# Altium schematic symbol library IC_Transistor.SchLib: 16 symbols
Pins are listed as number, name and electrical type; pins without a type are passive.

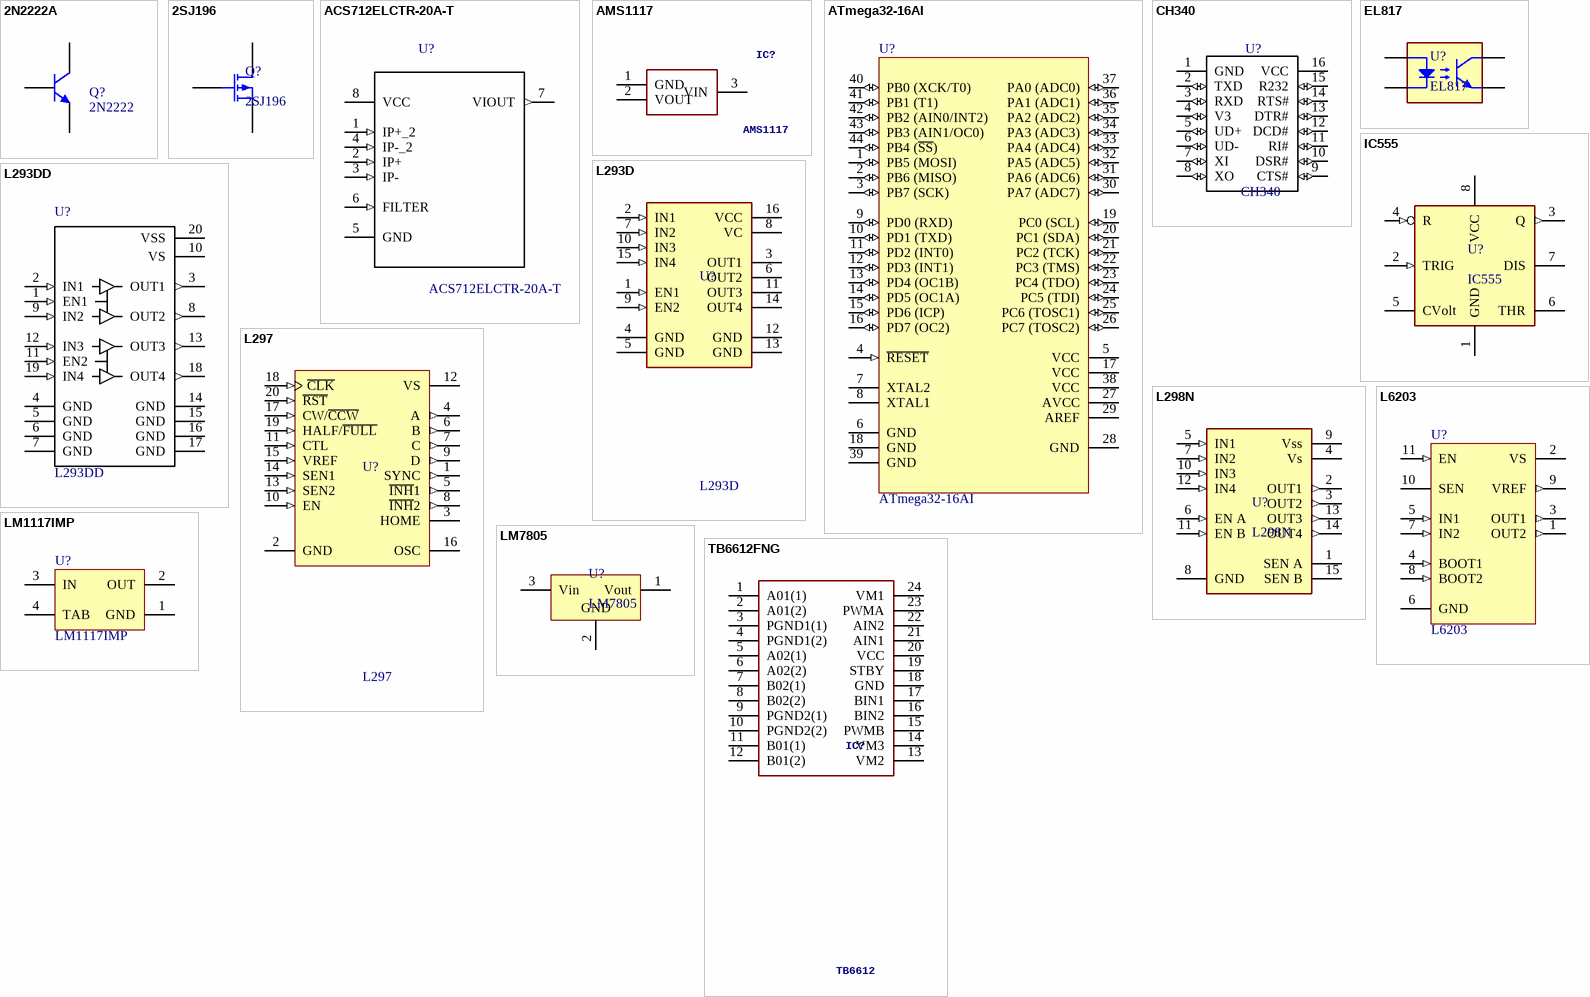
[diagram p0: symbols 2N2222A to TB6612FNG]

## 2N2222A
designator Q?, comment 2N2222
Amplifier Transistor NPN Silicon
footprint TO 92 (TO, Flat Index; 3 In-Line, Axial Leads; Body Dia. 4.6mm; Leads 0.48 x 0.43 mm (max))
footprint SOT23
pins: 1 C, 2 B, 3 E

## 2SJ196
designator Q?
P-Channel MOSFET
footprint TO 92 (TO, Flat Index; 3 In-Line, Axial Leads; Body Dia. 4.6mm; Leads 0.48 x 0.43 mm (max))
pins: 1 G, 2 D, 3 S

## ACS712ELCTR-20A-T
designator U?
SENSOR CURRENT HALL 20A AC/DC; MF: Allegro; Package: SOIC-8 Allegro MicroSystems LLC; Price: 2.93 USD; MP: ACS712ELCTR-20A-T; Availability: Good; Value: *
footprint SOIC127P600X175-8N
pins: 1 IP+_2 (in), 2 IP+ (in), 3 IP- (in), 4 IP-_2 (in), 5 GND, 6 FILTER (in), 7 VIOUT (out), 8 VCC (power)

## AMS1117
designator IC?
Manufacturer_Name: Advanced Monolithic Systems; GateName_1: G$1; SymbolName_1: AMS1117-3.3V; LibraryName: ams1117-3.3v; DeviceSetName: AMS1117-3.3V; Package: SOT229P700X180-4N; Supplier_Name: RS; Manufacturer_Part_Number: ams1117-3.3v; Height: 1.8mm
footprint AMS1117
pins: 1 GND, 2 VOUT, 3 VIN

## ATmega32-16AI
designator U?
AVR 32K Bytes of In-System Programmable Flash Memory; Published: 17-Sep-2003; LatestRevisionDate: 13-Apr-2006; LatestRevisionNote: IPC-7351 Footprint Added.; DatasheetVersion: 2503C-AVR-10/02; PackageVersion: rev.B, Oct-2001; PackageReference: 44A; Publisher: Altium Limited; PackageDescription: 44-Pin Thin Quad Flat Pack 0.8 mm Pitch; ComponentLink1Description: Manufacturer Link; ComponentLink1URL: http://www.atmel.com; ComponentLink2Description: Datasheet; ComponentLink2URL: http://www.atmel.com/dyn/resources/prod_documents/doc2503.pdf
footprint Atmega32
footprint DIP_40 (DIP, 40-Leads, Row Spacing 15.24mm, Pitch 2.54mm, Body 51.8x13.5mm)
pins: 1 PB5 (MOSI) (io), 2 PB6 (MISO) (io), 3 PB7 (SCK) (io), 4 ~{RESET} (in), 5 VCC (power), 6 GND (power), 7 XTAL2, 8 XTAL1, 9 PD0 (RXD) (io), 10 PD1 (TXD) (io), 11 PD2 (INT0) (io), 12 PD3 (INT1) (io), 13 PD4 (OC1B) (io), 14 PD5 (OC1A) (io), 15 PD6 (ICP) (io), 16 PD7 (OC2) (io), 17 VCC (power), 18 GND (power), 19 PC0 (SCL) (io), 20 PC1 (SDA) (io), 21 PC2 (TCK) (io), 22 PC3 (TMS) (io), 23 PC4 (TDO) (io), 24 PC5 (TDI) (io), 25 PC6 (TOSC1) (io), 26 PC7 (TOSC2) (io), 27 AVCC (power), 28 GND (power), 29 AREF, 30 PA7 (ADC7) (io), 31 PA6 (ADC6) (io), 32 PA5 (ADC5) (io), 33 PA4 (ADC4) (io), 34 PA3 (ADC3) (io), 35 PA2 (ADC2) (io), 36 PA1 (ADC1) (io), 37 PA0 (ADC0) (io), 38 VCC (power), 39 GND (power), 40 PB0 (XCK/T0) (io), 41 PB1 (T1) (io), 42 PB2 (AIN0/INT2) (io), 43 PB3 (AIN1/OC0) (io), 44 PB4 (~{SS}) (io)

## CH340
designator U?
MF: Eaton / Cutler Hammer; Package: None; MP: CH340; Price: 223.47 USD; Availability: Bad; Value: *
footprint SO16
pins: 1 GND (power), 2 TXD (io), 3 RXD (io), 4 V3 (io), 5 UD+ (io), 6 UD- (io), 7 XI (io), 8 XO (io), 9 CTS# (io), 10 DSR# (io), 11 RI# (io), 12 DCD# (io), 13 DTR# (io), 14 RTS# (io), 15 R232 (io), 16 VCC (power)

## EL817
designator U?
Photocoupler
footprint DIP_4
pins: 1 A, 2 K, 3 E, 4 C

## IC555
designator U?
footprint DIP_8
pins: 1 GND, 2 TRIG (in), 3 Q (out), 4 R (in), 5 CVolt, 6 THR, 7 DIS, 8 VCC

## L293D
designator U?
Push-Pull Four Channel Driver With Diode; Published: 8-Jun-2000; LatestRevisionDate: 06-Jun-2005; LatestRevisionNote: Stylized 3D Model Added.; DatasheetVersion: Jun-1996; PackageVersion: Apr-1996; PackageReference: DIP16; Publisher: Altium Limited; PackageDescription: DIP; 16 Leads; Row Spacing 7.62 mm; Pitch 2.54 mm; ComponentLink1Description: Manufacturer Link; ComponentLink1URL: http://www.st.com/; ComponentLink2Description: Datasheet; ComponentLink2URL: http://www.st.com/stonline/products/literature/ds/1330/l293d.pdf
footprint DIP_16 (DIP; 16 Leads; Row Spacing 7.62 mm; Pitch 2.54 mm)
pins: 1 EN1 (in), 2 IN1 (in), 3 OUT1 (hiz), 4 GND (power), 5 GND (power), 6 OUT2 (hiz), 7 IN2 (in), 8 VC (power), 9 EN2 (in), 10 IN3 (in), 11 OUT3 (hiz), 12 GND (power), 13 GND (power), 14 OUT4 (hiz), 15 IN4 (in), 16 VCC (power)

## L293DD
designator U?
IC MOTOR DRIVER PAR 20-SOIC; MF: STMicroelectronics; Availability: Good; Price: 3.02 USD; Package: SOIC-20 STMicroelectronics; MP: L293DD; Value: *
footprint SOIC127P1030-20N (SOIC, 20-Leads, Body 12.8x7.5mm, Pitch 1.27mm, IPC Medium Density)
pins: 1 EN1 (in), 2 IN1 (in), 3 OUT1 (out), 4 GND, 5 GND, 6 GND, 7 GND, 8 OUT2 (out), 9 IN2 (in), 10 VS (power), 11 EN2 (in), 12 IN3 (in), 13 OUT3 (out), 14 GND, 15 GND, 16 GND, 17 GND, 18 OUT4 (out), 19 IN4 (in), 20 VSS (power)

## L297
designator U?
Stepper Motor Controller; Published: 8-Jun-2000; LatestRevisionDate: 06-Jun-2005; LatestRevisionNote: Stylized 3D Model Added.; DatasheetVersion: Aug-1996; PackageVersion: Jun-1998; PackageReference: DIP20; Publisher: Altium Limited; PackageDescription: DIP; 20 Leads; Row Spacing 7.62 mm; Pitch 2.54 mm; Code_JEDEC: MS-015-AE; ComponentLink1Description: Manufacturer Link; ComponentLink1URL: http://www.st.com/; ComponentLink2Description: Datasheet; ComponentLink2URL: http://www.st.com/stonline/products/literature/ds/1334/l297.pdf
footprint SOIC_SO20 (SOIC, 20-Leads, Body 12.8x7.5mm, Pitch 1.27mm, IPC Medium Density)
footprint DIP_20
pins: 1 SYNC (out), 2 GND (power), 3 HOME (oc), 4 A (out), 5 ~{INH}1 (out), 6 B (out), 7 C (out), 8 ~{INH}2 (out), 9 D (out), 10 EN (in), 11 CTL (in), 12 VS (power), 13 SEN2 (in), 14 SEN1 (in), 15 VREF (in), 16 OSC, 17 CW/~{CCW} (in), 18 ~{CLK} (in), 19 HALF/~{FULL} (in), 20 ~{RST} (in)

## L298N
designator U?
Dual Full Bridge Driver
footprint L298N
pins: 1 SEN A, 2 OUT1 (out), 3 OUT2 (out), 4 Vs (power), 5 IN1 (in), 6 EN A (in), 7 IN2 (in), 8 GND (power), 9 Vss (power), 10 IN3 (in), 11 EN B (in), 12 IN4 (in), 13 OUT3 (out), 14 OUT4 (out), 15 SEN B

## L6203
designator U?
footprint L6203
pins: 1 OUT2 (out), 2 VS (oe), 3 OUT1 (out), 4 BOOT1 (in), 5 IN1 (in), 6 GND (oe), 7 IN2 (in), 8 BOOT2 (in), 9 VREF (out), 10 SEN (oe), 11 EN (in)

## LM1117IMP
designator U?
800mA Low-Dropout Linear Regulator, 4-pin SOT-223; PartNumber: LM1117IMP-3.3; Manufacturer: National Semiconductor; PackageTopMarking: XYTT*N05B; PowerWise: N; CompType: LDO IC; Published: 4-Dec-2008; DatasheetVersion: Apr-2006; PackageVersion: revB, Apr-2003; PackageReference: MP04A; Publisher: Altium Limited; PackageDescription: Molded SOT-223, 6.50 x 3.56 x 1.6mm Body, 4 Lead, 2.3mm Pitch; Supplier 1: Farnell; Supplier Part Number 1: 7614123; RoHS: N; PinCount: 4; Code_JEDEC: TO-261-AA; Code_IPC: SOT223-4; ComponentLink1Description: LM1117 Datasheet; ComponentLink1URL: http://www.national.com/ds/LM/LM1117.pdf; ComponentLink2Description: LM1117 Web Page; ComponentLink2URL: http://www.national.com/pf/LM/LM1117.html; ComponentLink3Description: MP04A Package Page; ComponentLink3URL: http://www.national.com/packaging/folders/mp04a.html
footprint MP04A-N
pins: 1 GND (power), 2 OUT (power), 3 IN (power), 4 TAB (power)

## LM7805
designator U?
footprint TO 220
footprint TO 252
pins: 1 Vout, 2 GND, 3 Vin

## TB6612FNG
designator IC?, comment TB6612
Manufacturer_Name: Toshiba; Manufacturer_Part_Number: TB6612FNG,C,8,EL; Supplier_Name: RS; Height: 1.6mm
footprint TB6612FNG (TB6612FNG,C,8,EL)
pins: 1 A01(1), 2 A01(2), 3 PGND1(1) (power), 4 PGND1(2) (power), 5 A02(1), 6 A02(2), 7 B02(1), 8 B02(2), 9 PGND2(1) (power), 10 PGND2(2) (power), 11 B01(1), 12 B01(2), 13 VM2, 14 VM3, 15 PWMB, 16 BIN2, 17 BIN1, 18 GND (power), 19 STBY, 20 VCC (power), 21 AIN1, 22 AIN2, 23 PWMA, 24 VM1